# Altium footprint library J 接插件.PcbLib: 458 footprints (part 26 of 29)
Each footprint in its own frame and in the unit in brackets; x right, y up, seen from the top. Pads: shape width x height; smd on the part's side, far side on the other; paste and mask are expansions set on the pad; w line width, h text height; cw(c..) or ccw(c..) is an arc to the next point about the centre after c.
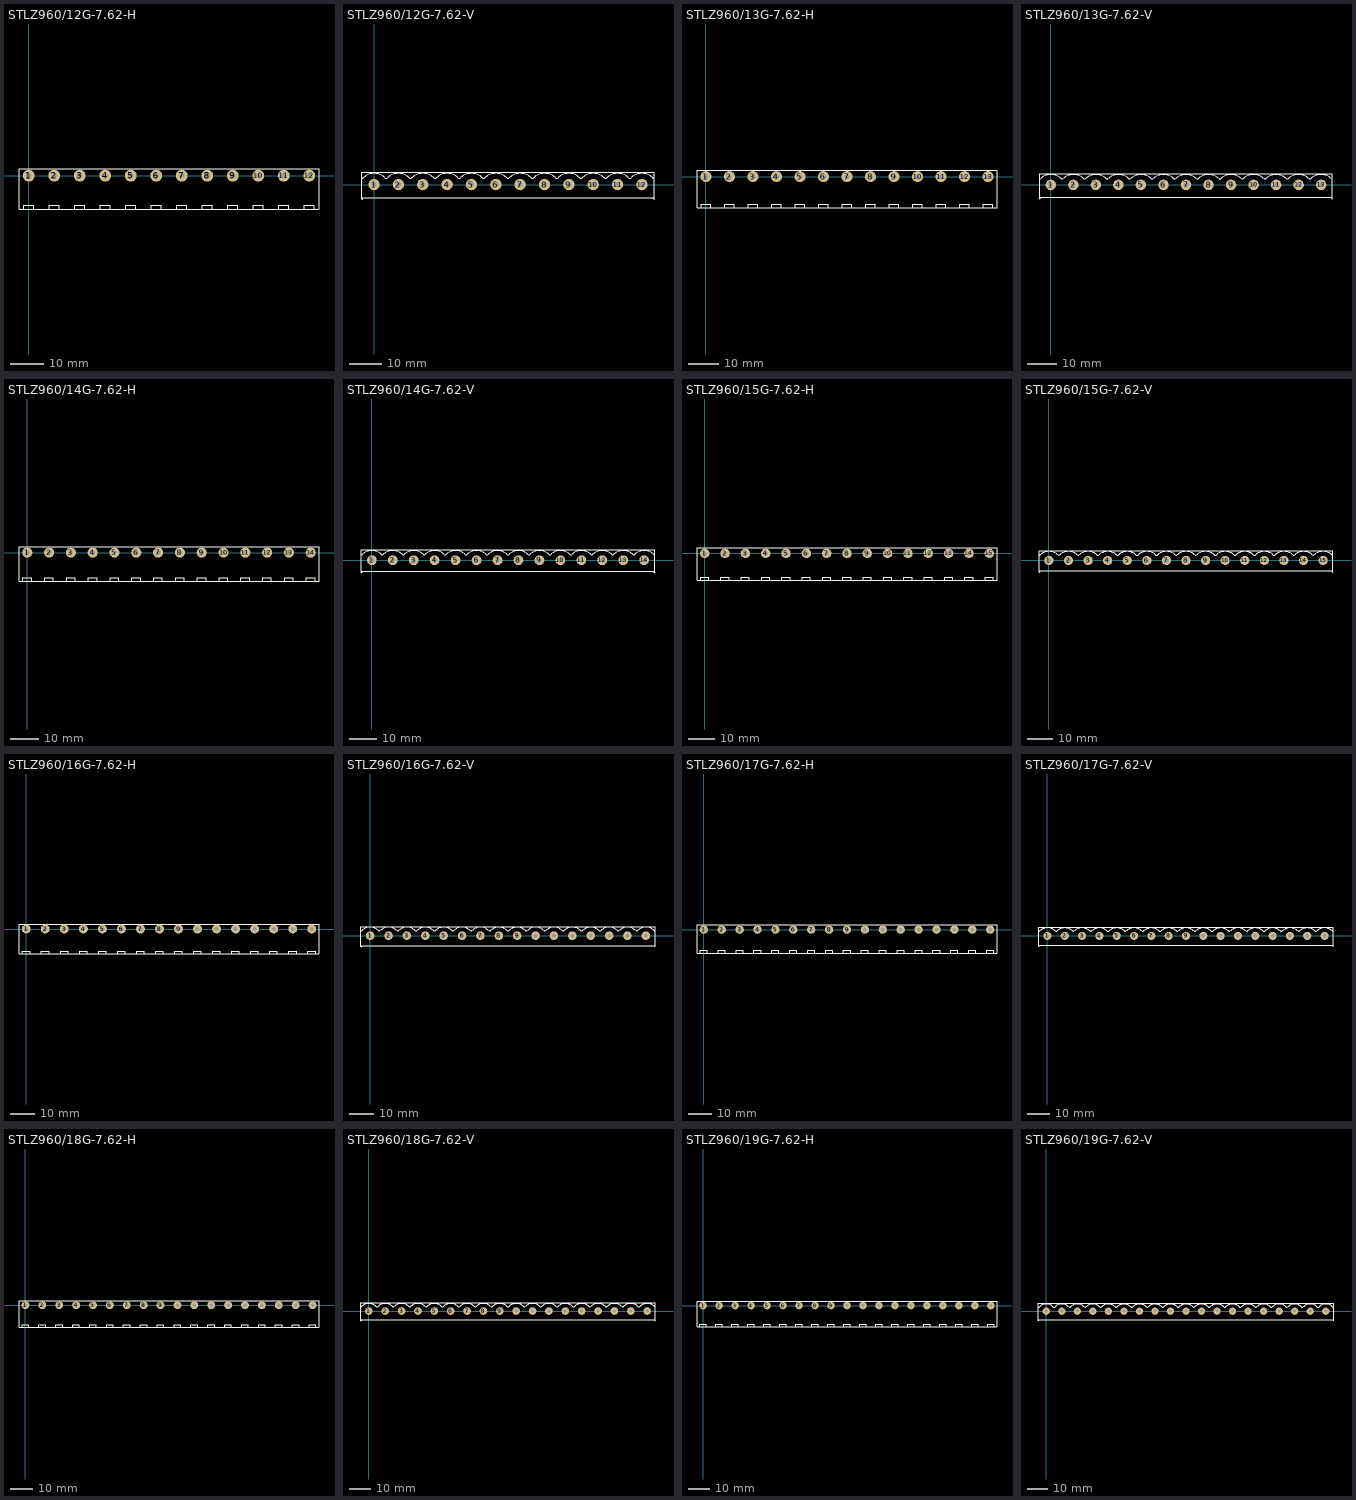
[diagram p25: the footprints below, top view; thin cyan lines are the x and y axes]

## STLZ960/12G-7.62-H [mil] "美卡诺 STLZ960 接触件座  间距：7.62   12Pin   弯角"
height 330.71
pads (12):
  round 140 hole 60: 1(0,0) 2(300,0) 3(600,0) 4(900,0) 5(1200,0) 6(1500,0) 7(1800,0) 8(2100,0) 9(2400,0) 10(2700,0) 11(3000,0) 12(3300,0)
Top Overlay:
  lines w10: -60,-390 -60,-350 60,-350 60,-390 ; 240,-390 240,-350 360,-350 360,-390 ; 540,-390 540,-350 660,-350 660,-390 ; 840,-390 840,-350 960,-350 960,-390 ; 1140,-390 1140,-350 1260,-350 1260,-390 ; 1440,-390 1440,-350 1560,-350 1560,-390 ; 1740,-390 1740,-350 1860,-350 1860,-390 ; 2040,-390 2040,-350 2160,-350 2160,-390 ; 2340,-390 2340,-350 2460,-350 2460,-390 ; 2640,-390 2640,-350 2760,-350 2760,-390 ; 2940,-390 2940,-350 3060,-350 3060,-390 ; 3240,-390 3240,-350 3360,-350 3360,-390 ; -114.17,-393.7 3414.17,-393.7 3414.17,78.74 -114.17,78.74 -114.17,-393.7

## STLZ960/12G-7.62-V [mil] "美卡诺 STLZ960 接触件座  间距：7.62   12Pin"
height 826.77
pads (12):
  round 140 hole 60: 1(0,0) 2(300,0) 3(600,0) 4(900,0) 5(1200,0) 6(1500,0) 7(1800,0) 8(2100,0) 9(2400,0) 10(2700,0) 11(3000,0) 12(3300,0)
Top Overlay:
  lines w10: -150,-181.1 -150,149.61 3450,149.61 3450,-181.1 ; -150,-161.42 3450,-161.42 ; -149.61,-182.09 -149.61,-181.1 ; -149.61,80 -140,80 cw(c0,-60) 140,80 160,80 cw(c300,-60) 440,80 460,80 cw(c600,-60) 740,80 ; -148.62,-182.09 -130.91,-164.37 ; -142.72,-173.23 -142.72,-163.39 ; 748.82,80 740,80 ; 3433.27,-165.35 3449.02,-181.1 ; 3443.11,-170.28 3443.11,-162.4 ; 3448.82,80 3440,80 ccw(c3300,-60) 3160,80 3140,80 ccw(c3000,-60) 2860,80 2840,80 ccw(c2700,-60) 2560,80 2540,80 ccw(c2400,-60) 2260,80 2240,80 ccw(c2100,-60) 1960,80 1940,80 ccw(c1800,-60) 1660,80 1640,80 ccw(c1500,-60) 1360,80 1340,80 ccw(c1200,-60) 1060,80 1040,80 ccw(c900,-60) 760,80 740,80

## STLZ960/13G-7.62-H [mil] "美卡诺 STLZ960 接触件座  间距：7.62   13Pin   弯角"
height 330.71
pads (13):
  round 140 hole 60: 1(0,0) 2(300,0) 3(600,0) 4(900,0) 5(1200,0) 6(1500,0) 7(1800,0) 8(2100,0) 9(2400,0) 10(2700,0) 11(3000,0) 12(3300,0) 13(3600,0)
Top Overlay:
  lines w10: -60,-390 -60,-350 60,-350 60,-390 ; 240,-390 240,-350 360,-350 360,-390 ; 540,-390 540,-350 660,-350 660,-390 ; 840,-390 840,-350 960,-350 960,-390 ; 1140,-390 1140,-350 1260,-350 1260,-390 ; 1440,-390 1440,-350 1560,-350 1560,-390 ; 1740,-390 1740,-350 1860,-350 1860,-390 ; 2040,-390 2040,-350 2160,-350 2160,-390 ; 2340,-390 2340,-350 2460,-350 2460,-390 ; 2640,-390 2640,-350 2760,-350 2760,-390 ; 2940,-390 2940,-350 3060,-350 3060,-390 ; 3240,-390 3240,-350 3360,-350 3360,-390 ; 3540,-390 3540,-350 3660,-350 3660,-390 ; -114.17,-393.7 3714.17,-393.7 3714.17,78.74 -114.17,78.74 -114.17,-393.7

## STLZ960/13G-7.62-V [mil] "美卡诺 STLZ960 接触件座  间距：7.62   13Pin"
height 826.77
pads (13):
  round 140 hole 60: 1(0,0) 2(300,0) 3(600,0) 4(900,0) 5(1200,0) 6(1500,0) 7(1800,0) 8(2100,0) 9(2400,0) 10(2700,0) 11(3000,0) 12(3300,0) 13(3600,0)
Top Overlay:
  lines w10: -150,-181.1 -150,149.61 3750,149.61 3750,-181.1 ; -150,-161.42 3750,-161.42 ; -149.61,-182.09 -149.61,-181.1 ; -149.61,80 -140,80 cw(c0,-60) 140,80 160,80 cw(c300,-60) 440,80 460,80 cw(c600,-60) 740,80 ; -148.62,-182.09 -130.91,-164.37 ; -142.72,-173.23 -142.72,-163.39 ; 748.82,80 740,80 ; 3733.27,-165.35 3749.02,-181.1 ; 3743.11,-170.28 3743.11,-162.4 ; 3748.82,80 3740,80 ccw(c3600,-60) 3460,80 3440,80 ccw(c3300,-60) 3160,80 3140,80 ccw(c3000,-60) 2860,80 2840,80 ccw(c2700,-60) 2560,80 2540,80 ccw(c2400,-60) 2260,80 2240,80 ccw(c2100,-60) 1960,80 1940,80 ccw(c1800,-60) 1660,80 1640,80 ccw(c1500,-60) 1360,80 1340,80 ccw(c1200,-60) 1060,80 1040,80 ccw(c900,-60) 760,80 740,80

## STLZ960/14G-7.62-H [mil] "美卡诺 STLZ960 接触件座  间距：7.62   14Pin   弯角"
height 330.71
pads (14):
  round 140 hole 60: 1(0,0) 2(300,0) 3(600,0) 4(900,0) 5(1200,0) 6(1500,0) 7(1800,0) 8(2100,0) 9(2400,0) 10(2700,0) 11(3000,0) 12(3300,0) 13(3600,0) 14(3900,0)
Top Overlay:
  lines w10: -60,-390 -60,-350 60,-350 60,-390 ; 240,-390 240,-350 360,-350 360,-390 ; 540,-390 540,-350 660,-350 660,-390 ; 840,-390 840,-350 960,-350 960,-390 ; 1140,-390 1140,-350 1260,-350 1260,-390 ; 1440,-390 1440,-350 1560,-350 1560,-390 ; 1740,-390 1740,-350 1860,-350 1860,-390 ; 2040,-390 2040,-350 2160,-350 2160,-390 ; 2340,-390 2340,-350 2460,-350 2460,-390 ; 2640,-390 2640,-350 2760,-350 2760,-390 ; 2940,-390 2940,-350 3060,-350 3060,-390 ; 3240,-390 3240,-350 3360,-350 3360,-390 ; 3540,-390 3540,-350 3660,-350 3660,-390 ; 3840,-390 3840,-350 3960,-350 3960,-390 ; -114.17,-393.7 -114.17,78.74 4014.17,78.74 4014.17,-393.7 -114.17,-393.7

## STLZ960/14G-7.62-V [mil] "美卡诺 STLZ960 接触件座  间距：7.62   14Pin"
height 826.77
pads (14):
  round 140 hole 60: 1(0,0) 2(300,0) 3(600,0) 4(900,0) 5(1200,0) 6(1500,0) 7(1800,0) 8(2100,0) 9(2400,0) 10(2700,0) 11(3000,0) 12(3300,0) 13(3600,0) 14(3900,0)
Top Overlay:
  lines w10: -150,-181.1 -150,149.61 4050,149.61 4050,-181.1 ; -150,-161.42 4050,-161.42 ; -149.61,-182.09 -149.61,-181.1 ; -149.61,80 -140,80 cw(c0,-60) 140,80 160,80 cw(c300,-60) 440,80 460,80 cw(c600,-60) 740,80 ; -148.62,-182.09 -130.91,-164.37 ; -142.72,-173.23 -142.72,-163.39 ; 748.82,80 740,80 ; 1948.82,80 1940,80 ; 4033.27,-165.35 4049.02,-181.1 ; 4043.11,-170.28 4043.11,-162.4 ; 4048.82,80 4040,80 ccw(c3900,-60) 3760,80 3740,80 ccw(c3600,-60) 3460,80 3440,80 ccw(c3300,-60) 3160,80 3140,80 ccw(c3000,-60) 2860,80 2840,80 ccw(c2700,-60) 2560,80 2540,80 ccw(c2400,-60) 2260,80 2240,80 ccw(c2100,-60) 1960,80 1940,80 ; 740,80 760,80 cw(c900,-60) 1040,80 1060,80 cw(c1200,-60) 1340,80 1360,80 cw(c1500,-60) 1640,80 1660,80 cw(c1800,-60) 1940,80

## STLZ960/15G-7.62-H [mil] "美卡诺 STLZ960 接触件座  间距：7.62   15Pin   弯角"
height 330.71
pads (15):
  round 140 hole 60: 1(0,0) 2(300,0) 3(600,0) 4(900,0) 5(1200,0) 6(1500,0) 7(1800,0) 8(2100,0) 9(2400,0) 10(2700,0) 11(3000,0) 12(3300,0) 13(3600,0) 14(3900,0) 15(4200,0)
Top Overlay:
  lines w10: -60,-390 -60,-350 60,-350 60,-390 ; 240,-390 240,-350 360,-350 360,-390 ; 540,-390 540,-350 660,-350 660,-390 ; 840,-390 840,-350 960,-350 960,-390 ; 1140,-390 1140,-350 1260,-350 1260,-390 ; 1440,-390 1440,-350 1560,-350 1560,-390 ; 1740,-390 1740,-350 1860,-350 1860,-390 ; 2040,-390 2040,-350 2160,-350 2160,-390 ; 2340,-390 2340,-350 2460,-350 2460,-390 ; 2640,-390 2640,-350 2760,-350 2760,-390 ; 2940,-390 2940,-350 3060,-350 3060,-390 ; 3240,-390 3240,-350 3360,-350 3360,-390 ; 3540,-390 3540,-350 3660,-350 3660,-390 ; 3840,-390 3840,-350 3960,-350 3960,-390 ; 4140,-390 4140,-350 4260,-350 4260,-390 ; -114.17,-393.7 -114.17,78.74 4314.17,78.74 4314.17,-393.7 -114.17,-393.7

## STLZ960/15G-7.62-V [mil] "美卡诺 STLZ960 接触件座  间距：7.62   15Pin"
height 826.77
pads (15):
  round 140 hole 60: 1(0,0) 2(300,0) 3(600,0) 4(900,0) 5(1200,0) 6(1500,0) 7(1800,0) 8(2100,0) 9(2400,0) 10(2700,0) 11(3000,0) 12(3300,0) 13(3600,0) 14(3900,0) 15(4200,0)
Top Overlay:
  lines w10: -150,-181.1 -150,149.61 4350,149.61 4350,-181.1 ; -150,-161.42 4350,-161.42 ; -149.61,-182.09 -149.61,-181.1 ; -149.61,80 -140,80 cw(c0,-60) 140,80 160,80 cw(c300,-60) 440,80 460,80 cw(c600,-60) 740,80 ; -148.62,-182.09 -130.91,-164.37 ; -142.72,-173.23 -142.72,-163.39 ; 748.82,80 740,80 ; 4333.27,-165.35 4349.02,-181.1 ; 4343.11,-170.28 4343.11,-162.4 ; 4348.82,80 4340,80 ccw(c4200,-60) 4060,80 4040,80 ccw(c3900,-60) 3760,80 3740,80 ccw(c3600,-60) 3460,80 3440,80 ccw(c3300,-60) 3160,80 3140,80 ccw(c3000,-60) 2860,80 2840,80 ccw(c2700,-60) 2560,80 2540,80 ccw(c2400,-60) 2260,80 2240,80 ccw(c2100,-60) 1960,80 1940,80 ccw(c1800,-60) 1660,80 1640,80 ccw(c1500,-60) 1360,80 1340,80 ccw(c1200,-60) 1060,80 1040,80 ccw(c900,-60) 760,80 740,80

## STLZ960/16G-7.62-H [mil] "美卡诺 STLZ960 接触件座  间距：7.62   16Pin   弯角"
height 330.71
pads (16):
  round 140 hole 60: 1(0,0) 2(300,0) 3(600,0) 4(900,0) 5(1200,0) 6(1500,0) 7(1800,0) 8(2100,0) 9(2400,0) 10(2700,0) 11(3000,0) 12(3300,0) 13(3600,0) 14(3900,0) 15(4200,0) 16(4500,0)
Top Overlay:
  lines w10: -60,-390 -60,-350 60,-350 60,-390 ; 240,-390 240,-350 360,-350 360,-390 ; 540,-390 540,-350 660,-350 660,-390 ; 840,-390 840,-350 960,-350 960,-390 ; 1140,-390 1140,-350 1260,-350 1260,-390 ; 1440,-390 1440,-350 1560,-350 1560,-390 ; 1740,-390 1740,-350 1860,-350 1860,-390 ; 2040,-390 2040,-350 2160,-350 2160,-390 ; 2340,-390 2340,-350 2460,-350 2460,-390 ; 2640,-390 2640,-350 2760,-350 2760,-390 ; 2940,-390 2940,-350 3060,-350 3060,-390 ; 3240,-390 3240,-350 3360,-350 3360,-390 ; 3540,-390 3540,-350 3660,-350 3660,-390 ; 3840,-390 3840,-350 3960,-350 3960,-390 ; 4140,-390 4140,-350 4260,-350 4260,-390 ; 4440,-390 4440,-350 4560,-350 4560,-390 ; -114.17,-393.7 4614.17,-393.7 4614.17,78.74 -114.17,78.74 -114.17,-393.7

## STLZ960/16G-7.62-V [mil] "美卡诺 STLZ960 接触件座  间距：7.62   16Pin"
height 826.77
pads (16):
  round 140 hole 60: 1(0,0) 2(300,0) 3(600,0) 4(900,0) 5(1200,0) 6(1500,0) 7(1800,0) 8(2100,0) 9(2400,0) 10(2700,0) 11(3000,0) 12(3300,0) 13(3600,0) 14(3900,0) 15(4200,0) 16(4500,0)
Top Overlay:
  lines w10: -150,-181.1 -150,149.61 4650,149.61 4650,-181.1 ; -150,-161.42 4650,-161.42 ; -149.61,-182.09 -149.61,-181.1 ; -149.61,80 -140,80 cw(c0,-60) 140,80 160,80 cw(c300,-60) 440,80 460,80 cw(c600,-60) 740,80 ; -148.62,-182.09 -130.91,-164.37 ; -142.72,-173.23 -142.72,-163.39 ; 748.82,80 740,80 ; 1948.82,80 1940,80 ; 2548.82,80 2540,80 ; 4633.27,-165.35 4649.02,-181.1 ; 4643.11,-170.28 4643.11,-162.4 ; 4648.82,80 4640,80 ccw(c4500,-60) 4360,80 4340,80 ccw(c4200,-60) 4060,80 4040,80 ccw(c3900,-60) 3760,80 3740,80 ccw(c3600,-60) 3460,80 3440,80 ccw(c3300,-60) 3160,80 3140,80 ccw(c3000,-60) 2860,80 2840,80 ccw(c2700,-60) 2560,80 2540,80 ; 740,80 760,80 cw(c900,-60) 1040,80 1060,80 cw(c1200,-60) 1340,80 1360,80 cw(c1500,-60) 1640,80 1660,80 cw(c1800,-60) 1940,80 ; 1940,80 1960,80 cw(c2100,-60) 2240,80 2260,80 cw(c2400,-60) 2540,80

## STLZ960/17G-7.62-H [mil] "美卡诺 STLZ960 接触件座  间距：7.62   17Pin   弯角"
height 330.71
pads (17):
  round 140 hole 60: 1(0,0) 2(300,0) 3(600,0) 4(900,0) 5(1200,0) 6(1500,0) 7(1800,0) 8(2100,0) 9(2400,0) 10(2700,0) 11(3000,0) 12(3300,0) 13(3600,0) 14(3900,0) 15(4200,0) 16(4500,0) 17(4800,0)
Top Overlay:
  lines w10: -60,-390 -60,-350 60,-350 60,-390 ; 240,-390 240,-350 360,-350 360,-390 ; 540,-390 540,-350 660,-350 660,-390 ; 840,-390 840,-350 960,-350 960,-390 ; 1140,-390 1140,-350 1260,-350 1260,-390 ; 1440,-390 1440,-350 1560,-350 1560,-390 ; 1740,-390 1740,-350 1860,-350 1860,-390 ; 2040,-390 2040,-350 2160,-350 2160,-390 ; 2340,-390 2340,-350 2460,-350 2460,-390 ; 2640,-390 2640,-350 2760,-350 2760,-390 ; 2940,-390 2940,-350 3060,-350 3060,-390 ; 3240,-390 3240,-350 3360,-350 3360,-390 ; 3540,-390 3540,-350 3660,-350 3660,-390 ; 3840,-390 3840,-350 3960,-350 3960,-390 ; 4140,-390 4140,-350 4260,-350 4260,-390 ; 4440,-390 4440,-350 4560,-350 4560,-390 ; 4740,-390 4740,-350 4860,-350 4860,-390 ; -114.17,-393.7 4914.17,-393.7 4914.17,78.74 -114.17,78.74 -114.17,-393.7

## STLZ960/17G-7.62-V [mil] "美卡诺 STLZ960 接触件座  间距：7.62   17Pin"
height 826.77
pads (17):
  round 140 hole 60: 1(0,0) 2(300,0) 3(600,0) 4(900,0) 5(1200,0) 6(1500,0) 7(1800,0) 8(2100,0) 9(2400,0) 10(2700,0) 11(3000,0) 12(3300,0) 13(3600,0) 14(3900,0) 15(4200,0) 16(4500,0) 17(4800,0)
Top Overlay:
  lines w10: -150,-181.1 -150,149.61 4950,149.61 4950,-181.1 ; -150,-161.42 4950,-161.42 ; -149.61,-182.09 -149.61,-181.1 ; -149.61,80 -140,80 cw(c0,-60) 140,80 160,80 cw(c300,-60) 440,80 460,80 cw(c600,-60) 740,80 ; -148.62,-182.09 -130.91,-164.37 ; -142.72,-173.23 -142.72,-163.39 ; 748.82,80 740,80 ; 1948.82,80 1940,80 ; 2248.82,80 2240,80 ; 3748.82,80 3740,80 ; 4933.27,-165.35 4949.02,-181.1 ; 4943.11,-170.28 4943.11,-162.4 ; 4948.82,80 4940,80 ccw(c4800,-60) 4660,80 4640,80 ccw(c4500,-60) 4360,80 4340,80 ccw(c4200,-60) 4060,80 4040,80 ccw(c3900,-60) 3760,80 3740,80 ; 740,80 760,80 cw(c900,-60) 1040,80 1060,80 cw(c1200,-60) 1340,80 1360,80 cw(c1500,-60) 1640,80 1660,80 cw(c1800,-60) 1940,80 ; 1940,80 1960,80 cw(c2100,-60) 2240,80 ; 2240,80 2260,80 cw(c2400,-60) 2540,80 2560,80 cw(c2700,-60) 2840,80 2860,80 cw(c3000,-60) 3140,80 3160,80 cw(c3300,-60) 3440,80 3460,80 cw(c3600,-60) 3740,80

## STLZ960/18G-7.62-H [mil] "美卡诺 STLZ960 接触件座  间距：7.62   18Pin   弯角"
height 330.71
pads (18):
  round 140 hole 60: 1(0,0) 2(300,0) 3(600,0) 4(900,0) 5(1200,0) 6(1500,0) 7(1800,0) 8(2100,0) 9(2400,0) 10(2700,0) 11(3000,0) 12(3300,0) 13(3600,0) 14(3900,0) 15(4200,0) 16(4500,0) 17(4800,0) 18(5100,0)
Top Overlay:
  lines w10: -60,-390 -60,-350 60,-350 60,-390 ; 240,-390 240,-350 360,-350 360,-390 ; 540,-390 540,-350 660,-350 660,-390 ; 840,-390 840,-350 960,-350 960,-390 ; 1140,-390 1140,-350 1260,-350 1260,-390 ; 1440,-390 1440,-350 1560,-350 1560,-390 ; 1740,-390 1740,-350 1860,-350 1860,-390 ; 2040,-390 2040,-350 2160,-350 2160,-390 ; 2340,-390 2340,-350 2460,-350 2460,-390 ; 2640,-390 2640,-350 2760,-350 2760,-390 ; 2940,-390 2940,-350 3060,-350 3060,-390 ; 3240,-390 3240,-350 3360,-350 3360,-390 ; 3540,-390 3540,-350 3660,-350 3660,-390 ; 3840,-390 3840,-350 3960,-350 3960,-390 ; 4140,-390 4140,-350 4260,-350 4260,-390 ; 4440,-390 4440,-350 4560,-350 4560,-390 ; 4740,-390 4740,-350 4860,-350 4860,-390 ; 5040,-390 5040,-350 5160,-350 5160,-390 ; -114.17,-393.7 5214.17,-393.7 5214.17,78.74 -114.17,78.74 -114.17,-393.7

## STLZ960/18G-7.62-V [mil] "美卡诺 STLZ960 接触件座  间距：7.62   18Pin"
height 826.77
pads (18):
  round 140 hole 60: 1(0,0) 2(300,0) 3(600,0) 4(900,0) 5(1200,0) 6(1500,0) 7(1800,0) 8(2100,0) 9(2400,0) 10(2700,0) 11(3000,0) 12(3300,0) 13(3600,0) 14(3900,0) 15(4200,0) 16(4500,0) 17(4800,0) 18(5100,0)
Top Overlay:
  lines w10: -150,-181.1 -150,149.61 5250,149.61 5250,-181.1 ; -150,-161.42 5250,-161.42 ; -149.61,-182.09 -149.61,-181.1 ; -149.61,80 -140,80 cw(c0,-60) 140,80 160,80 cw(c300,-60) 440,80 460,80 cw(c600,-60) 740,80 ; -148.62,-182.09 -130.91,-164.37 ; -142.72,-173.23 -142.72,-163.39 ; 748.82,80 740,80 ; 2548.82,80 2540,80 ; 5233.27,-165.35 5249.02,-181.1 ; 5243.11,-170.28 5243.11,-162.4 ; 5248.82,80 5240,80 ccw(c5100,-60) 4960,80 4940,80 ccw(c4800,-60) 4660,80 4640,80 ccw(c4500,-60) 4360,80 4340,80 ccw(c4200,-60) 4060,80 4040,80 ccw(c3900,-60) 3760,80 3740,80 ccw(c3600,-60) 3460,80 3440,80 ccw(c3300,-60) 3160,80 3140,80 ccw(c3000,-60) 2860,80 2840,80 ccw(c2700,-60) 2560,80 2540,80 ; 740,80 760,80 cw(c900,-60) 1040,80 1060,80 cw(c1200,-60) 1340,80 1360,80 cw(c1500,-60) 1640,80 1660,80 cw(c1800,-60) 1940,80 1960,80 cw(c2100,-60) 2240,80 2260,80 cw(c2400,-60) 2540,80

## STLZ960/19G-7.62-H [mil] "美卡诺 STLZ960 接触件座  间距：7.62   19Pin   弯角"
height 330.71
pads (19):
  round 140 hole 60: 1(0,0) 2(300,0) 3(600,0) 4(900,0) 5(1200,0) 6(1500,0) 7(1800,0) 8(2100,0) 9(2400,0) 10(2700,0) 11(3000,0) 12(3300,0) 13(3600,0) 14(3900,0) 15(4200,0) 16(4500,0) 17(4800,0) 18(5100,0) 19(5400,0)
Top Overlay:
  lines w10: -60,-390 -60,-350 60,-350 60,-390 ; 240,-390 240,-350 360,-350 360,-390 ; 540,-390 540,-350 660,-350 660,-390 ; 840,-390 840,-350 960,-350 960,-390 ; 1140,-390 1140,-350 1260,-350 1260,-390 ; 1440,-390 1440,-350 1560,-350 1560,-390 ; 1740,-390 1740,-350 1860,-350 1860,-390 ; 2040,-390 2040,-350 2160,-350 2160,-390 ; 2340,-390 2340,-350 2460,-350 2460,-390 ; 2640,-390 2640,-350 2760,-350 2760,-390 ; 2940,-390 2940,-350 3060,-350 3060,-390 ; 3240,-390 3240,-350 3360,-350 3360,-390 ; 3540,-390 3540,-350 3660,-350 3660,-390 ; 3840,-390 3840,-350 3960,-350 3960,-390 ; 4140,-390 4140,-350 4260,-350 4260,-390 ; 4440,-390 4440,-350 4560,-350 4560,-390 ; 4740,-390 4740,-350 4860,-350 4860,-390 ; 5040,-390 5040,-350 5160,-350 5160,-390 ; 5340,-390 5340,-350 5460,-350 5460,-390 ; -114.17,-393.7 5514.17,-393.7 5514.17,78.74 -114.17,78.74 -114.17,-393.7

## STLZ960/19G-7.62-V [mil] "美卡诺 STLZ960 接触件座  间距：7.62   19Pin"
height 826.77
pads (19):
  round 140 hole 60: 1(0,0) 2(300,0) 3(600,0) 4(900,0) 5(1200,0) 6(1500,0) 7(1800,0) 8(2100,0) 9(2400,0) 10(2700,0) 11(3000,0) 12(3300,0) 13(3600,0) 14(3900,0) 15(4200,0) 16(4500,0) 17(4800,0) 18(5100,0) 19(5400,0)
Top Overlay:
  lines w10: -150,-181.1 -150,149.61 5550,149.61 5550,-181.1 ; -150,-161.42 5550,-161.42 ; -149.61,-182.09 -149.61,-181.1 ; -149.61,80 -140,80 cw(c0,-60) 140,80 160,80 cw(c300,-60) 440,80 460,80 cw(c600,-60) 740,80 ; -148.62,-182.09 -130.91,-164.37 ; -142.72,-173.23 -142.72,-163.39 ; 748.82,80 740,80 ; 2548.82,80 2540,80 ; 5533.27,-165.35 5549.02,-181.1 ; 5543.11,-170.28 5543.11,-162.4 ; 5548.82,80 5540,80 ccw(c5400,-60) 5260,80 5240,80 ccw(c5100,-60) 4960,80 4940,80 ccw(c4800,-60) 4660,80 4640,80 ccw(c4500,-60) 4360,80 4340,80 ccw(c4200,-60) 4060,80 4040,80 ccw(c3900,-60) 3760,80 3740,80 ccw(c3600,-60) 3460,80 3440,80 ccw(c3300,-60) 3160,80 3140,80 ccw(c3000,-60) 2860,80 2840,80 ccw(c2700,-60) 2560,80 2540,80 ; 740,80 760,80 cw(c900,-60) 1040,80 1060,80 cw(c1200,-60) 1340,80 1360,80 cw(c1500,-60) 1640,80 1660,80 cw(c1800,-60) 1940,80 1960,80 cw(c2100,-60) 2240,80 2260,80 cw(c2400,-60) 2540,80